# EAGLE library part CONN-10PIN (library ORBIT-CONN HEADER-3M-2500 Series)
3M-CONN-RIGHT_ANGLE-10PIN CONN HEADER R/A 10POS 2.54MM N2510-5002-RB https://www.digikey.com/product-detail/en/3m/N2510-5002-RB/MHE10K-ND/755188 CONN HEADER SMD 10POS 2.54MM N2510-6V0C-RB-WD https://www.digikey.com/product-detail/en/3m/N2510-6V0C-RB-WD/MSH10KTR-ND/1125434 CONN HEADER VERT 10POS 2.54MM N2510-6002-RB https://www.digikey.com/product-detail/en/3m/N2510-6002-RB/MHC10K-ND/755176
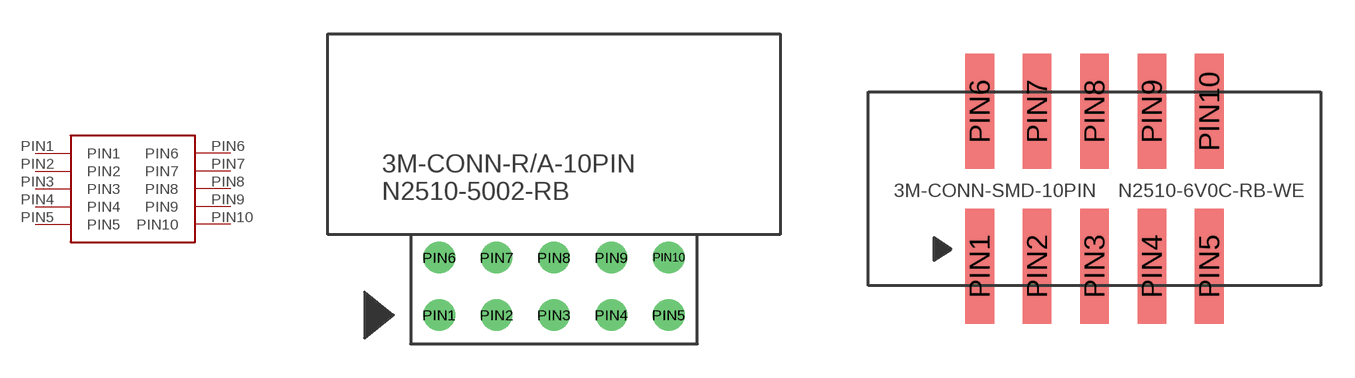
[diagram p1: symbol with the pads of R/A-10PIN; footprints R/A-10PIN, SMD-10PIN]

Designator prefix -

## CONN-10PINR/A-10PIN  [R/A-10PIN]
PIN1  PIN1
PIN2  PIN2
PIN3  PIN3
PIN4  PIN4
PIN5  PIN5
PIN6  PIN6
PIN7  PIN7
PIN8  PIN8
PIN9  PIN9
PIN10  PIN10

## CONN-10PINSMD-10PIN  [SMD-10PIN]
Pads as for R/A-10PIN

## CONN-10PINVERT-10PIN  [VERT-10PIN]
Pads as for R/A-10PIN

## Footprint R/A-10PIN (pad centres in mm)
3M-CONN-RIGHT_ANGLE-10PIN CONN HEADER R/A 10POS 2.54MM N2510-5002-RB Website: https://www.digikey.com/product-detail/en/3m/N2510-5002-RB/MHE10K-ND/755188
drill 0.889: PIN1 0,0; PIN2 2.54,0; PIN3 5.08,0; PIN4 7.62,0; PIN5 10.16,0; PIN6 0,2.54; PIN7 2.54,2.54; PIN8 5.08,2.54; PIN9 7.62,2.54; PIN10 10.16,2.54

## Footprint SMD-10PIN (pad centres in mm)
3M-CONN-SMD-10PIN CONN HEADER SMD 10POS 2.54MM N2510-6V0C-RB-WD Website: https://www.digikey.com/product-detail/en/3m/N2510-6V0C-RB-WD/MSH10KTR-ND/1125434
smd 1.27 x 5.08: PIN1 0,0; PIN2 2.54,0; PIN3 5.08,0; PIN4 7.62,0; PIN5 10.16,0; PIN6 0,6.858; PIN7 2.54,6.858; PIN8 5.08,6.858; PIN9 7.62,6.858; PIN10 10.16,6.858

## Footprint VERT-10PIN (pad centres in mm)
3M-CONN-VERTICAL-10PIN CONN HEADER VERT 10POS 2.54MM N2510-6002-RB Website: https://www.digikey.com/product-detail/en/3m/N2510-6002-RB/MHC10K-ND/755176
drill 0.89: PIN1 0,0; PIN2 2.54,0; PIN3 5.08,0; PIN4 7.62,0; PIN5 10.16,0; PIN6 0,2.54; PIN7 2.54,2.54; PIN8 5.08,2.54; PIN9 7.62,2.54; PIN10 10.16,2.54